# Altium schematic symbol library Voltage Level Translator.SchLib: 3 symbols
Pins are listed as number, name and electrical type; pins without a type are passive.

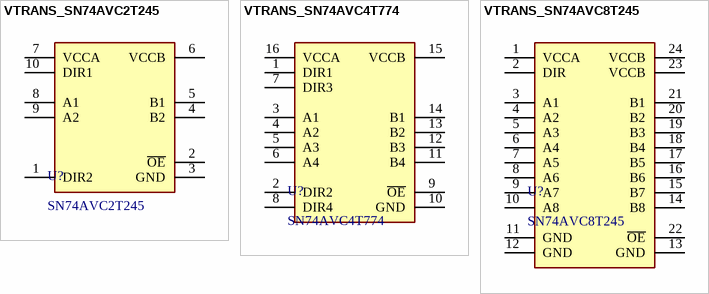
[diagram p0: symbols VTRANS_SN74AVC2T245 to VTRANS_SN74AVC8T245]

## VTRANS_SN74AVC2T245
designator U?, comment SN74AVC2T245
Dual-Bit Dual-Supply Bus Transceiver with Configurable Level-Shifting / Voltage Translation and Tri-State Outputs; VALUE: SN74AVC2T245
footprint QFN40_10_140X180 (PUQFN-10 RSW 1.8X1.4mm, 0.4mm pitch)
pins: 1 DIR2, 2 ~{OE}, 3 GND, 4 B2, 5 B1, 6 VCCB, 7 VCCA, 8 A1, 9 A2, 10 DIR1

## VTRANS_SN74AVC4T774
designator U?, comment SN74AVC4T774
4-Bit Dual-Supply Bus Transceiver With Configurable Voltage-Level Shifting and 3-State Outputs With Independent Direction Control Inputs; VALUE: SN74AVC4T774
footprint QFN50_14T (S-PVQFN-N14, 3.5X3.5mm, pitch: 0.5mm, 6+2+6+2)
pins: 1 DIR1, 2 DIR2, 3 A1, 4 A2, 5 A3, 6 A4, 7 DIR3, 8 DIR4, 9 ~{OE}, 10 GND, 11 B4, 12 B3, 13 B2, 14 B1, 15 VCCB, 16 VCCA

## VTRANS_SN74AVC8T245
designator U?, comment SN74AVC8T245
SN74AVC8T245 8-Bit Dual-Supply Bus Transceiver With Configurable Voltage Translation and 3-State Outputs; VALUE: SN74AVC8T245
footprint QFN50_24T_6X4 (RGY VQFN-20, 0.5mm Pitch, 5.65x3.65x1mm)
pins: 1 VCCA, 2 DIR, 3 A1, 4 A2, 5 A3, 6 A4, 7 A5, 8 A6, 9 A7, 10 A8, 11 GND, 12 GND, 13 GND, 14 B8, 15 B7, 16 B6, 17 B5, 18 B4, 19 B3, 20 B2, 21 B1, 22 ~{OE}, 23 VCCB, 24 VCCB